# EAGLE library part A6281 (library adam - ics)
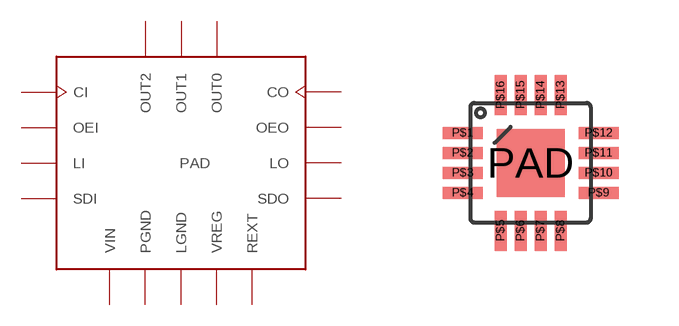
[diagram p0: symbol with the pads of QFN-16; footprint QFN-16]

Designator prefix -

## A6281  [QFN-16]
P$1  REXT
P$2  VREG  pwr
P$3  LGND  pwr
P$4  VIN  pwr
P$5  CI  in
P$6  OEI  in
P$7  LI  in
P$8  SDI  in
P$9  OUT2  out
P$10  PGND  pwr
P$11  OUT1  out
P$12  OUT0  out
P$13  SDO  out
P$14  LO  out
P$15  OEO  out
P$16  CO  out
PAD  PAD

## Footprint QFN-16 (pad centres in mm)
smd 1 x 0.3: P$1 -7.05,6.3; P$2 -7.05,5.8; P$3 -7.05,5.3; P$4 -7.05,4.8; P$9 -3.65,4.8; P$10 -3.65,5.3; P$11 -3.65,5.8; P$12 -3.65,6.3
smd 0.3 x 1: P$5 -6.1,3.85; P$6 -5.6,3.85; P$7 -5.1,3.85; P$8 -4.6,3.85; P$13 -4.6,7.25; P$14 -5.1,7.25; P$15 -5.6,7.25; P$16 -6.1,7.25
smd 1.7 x 1.7: PAD -5.35,5.55